# EAGLE library part ET8MG (library et8mg)
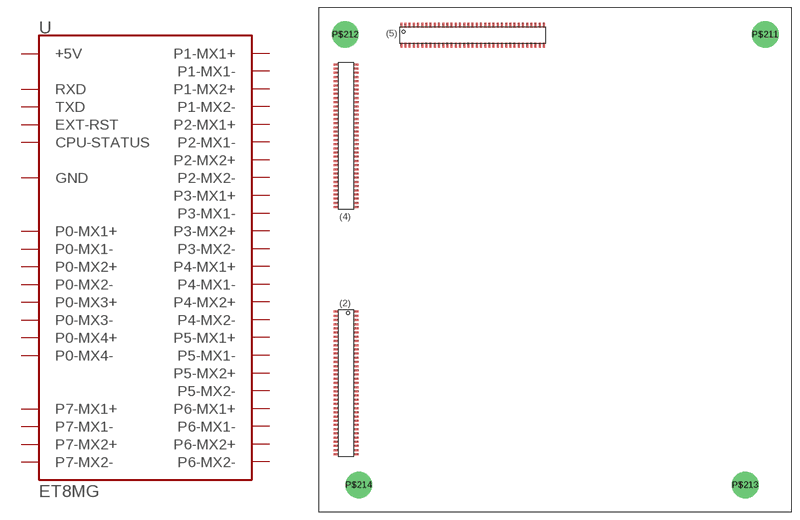
[diagram p0: symbol with the pads of ET8MG; footprint ET8MG]

Designator prefix -

## ET8MG  [ET8MG]
J2-3  P4-MX1+
J2-4  P4-MX2+
J2-5  P4-MX1-
J2-6  P4-MX2-
J2-13  P5-MX1+
J2-14  P5-MX2+
J2-15  P5-MX1-
J2-16  P5-MX2-
J2-23  P6-MX1+
J2-24  P6-MX2+
J2-25  P6-MX1-
J2-26  P6-MX2-
J2-33  P7-MX1+
J2-34  P7-MX2+
J2-35  P7-MX1-
J2-36  P7-MX2-
J2-41  +5V
J2-42  GND
J2-43  RXD
J2-44  TXD
J2-45  +5V
J2-46  GND
J2-50  GND
J2-51  EXT-RST
J2-53  +5V
J2-54  GND
J2-55  +5V
J2-56  GND
J2-57  +5V
J2-58  GND
J2-61  +5V
J2-62  GND
J2-65  +5V
J2-66  GND
J2-69  +5V
J2-70  GND
J4-2  GND
J4-5  +5V
J4-6  GND
J4-7  +5V
J4-9  +5V
J4-10  +5V
J4-11  +5V
J4-12  +5V
J4-29  CPU-STATUS
J4-33  P0-MX1+
J4-34  P0-MX2+
J4-35  P0-MX1-
J4-36  P0-MX2-
J4-37  P0-MX3+
J4-38  P0-MX4+
J4-39  P0-MX3-
J4-40  P0-MX4-
J4-43  P1-MX1+
J4-44  P1-MX2+
J4-45  P1-MX1-
J4-46  P1-MX2-
J4-53  P2-MX1+
J4-54  P2-MX2+
J4-55  P2-MX1-
J4-56  P2-MX2-
J4-63  P3-MX1+
J4-64  P3-MX2+
J4-65  P3-MX1-
J4-66  P3-MX2-

## Footprint ET8MG (pad centres in mm)
smd 1.016 x 0.381: J2-1 -28.321,-9.893; J2-2 -32.131,-9.893; J2-3 -28.321,-10.693; J2-4 -32.131,-10.693; J2-5 -28.321,-11.493; J2-6 -32.131,-11.493; J2-7 -28.321,-12.294; J2-8 -32.131,-12.294; J2-9 -28.321,-13.094; J2-10 -32.131,-13.094; J2-11 -28.321,-13.894; J2-12 -32.131,-13.894; J2-13 -28.321,-14.694; J2-14 -32.131,-14.694; J2-15 -28.321,-15.494; J2-16 -32.131,-15.494; J2-17 -28.321,-16.294; J2-18 -32.131,-16.294; J2-19 -28.321,-17.094; J2-20 -32.131,-17.094; J2-21 -28.321,-17.894; J2-22 -32.131,-17.894; J2-23 -28.321,-18.694; J2-24 -32.131,-18.694; J2-25 -28.321,-19.494; J2-26 -32.131,-19.494; J2-27 -28.321,-20.295; J2-28 -32.131,-20.295; J2-29 -28.321,-21.095; J2-30 -32.131,-21.095; J2-31 -28.321,-21.895; J2-32 -32.131,-21.895; J2-33 -28.321,-22.695; J2-34 -32.131,-22.695; J2-35 -28.321,-23.495; J2-36 -32.131,-23.495; J2-37 -28.321,-24.295; J2-38 -32.131,-24.295; J2-39 -28.321,-25.095; J2-40 -32.131,-25.095; J2-41 -28.321,-25.895; J2-42 -32.131,-25.895; J2-43 -28.321,-26.695; J2-44 -32.131,-26.695; J2-45 -28.321,-27.495; J2-46 -32.131,-27.495; J2-47 -28.321,-28.296; J2-48 -32.131,-28.296; J2-49 -28.321,-29.096; J2-50 -32.131,-29.096; J2-51 -28.321,-29.896; J2-52 -32.131,-29.896; J2-53 -28.321,-30.696; J2-54 -32.131,-30.696; J2-55 -28.321,-31.496; J2-56 -32.131,-31.496; J2-57 -28.321,-32.296; J2-58 -32.131,-32.296; J2-59 -28.321,-33.096; J2-60 -32.131,-33.096; J2-61 -28.321,-33.896; J2-62 -32.131,-33.896; J2-63 -28.321,-34.696; J2-64 -32.131,-34.696; J2-65 -28.321,-35.496; J2-66 -32.131,-35.496; J2-67 -28.321,-36.297; J2-68 -32.131,-36.297; J2-69 -28.321,-37.097; J2-70 -32.131,-37.097; J4-1 -28.321,37.224; J4-2 -32.131,37.224; J4-3 -28.321,36.424; J4-4 -32.131,36.424; J4-5 -28.321,35.623; J4-6 -32.131,35.623; J4-7 -28.321,34.823; J4-8 -32.131,34.823; J4-9 -28.321,34.023; J4-10 -32.131,34.023; J4-11 -28.321,33.223; J4-12 -32.131,33.223; J4-13 -28.321,32.423; J4-14 -32.131,32.423; J4-15 -28.321,31.623; J4-16 -32.131,31.623; J4-17 -28.321,30.823; J4-18 -32.131,30.823; J4-19 -28.321,30.023; J4-20 -32.131,30.023; J4-21 -28.321,29.223; J4-22 -32.131,29.223; J4-23 -28.321,28.423; J4-24 -32.131,28.423; J4-25 -28.321,27.622; J4-26 -32.131,27.622; J4-27 -28.321,26.822; J4-28 -32.131,26.822; J4-29 -28.321,26.022; J4-30 -32.131,26.022; J4-31 -28.321,25.222; J4-32 -32.131,25.222; J4-33 -28.321,24.422; J4-34 -32.131,24.422; J4-35 -28.321,23.622; J4-36 -32.131,23.622; J4-37 -28.321,22.822; J4-38 -32.131,22.822; J4-39 -28.321,22.022; J4-40 -32.131,22.022; J4-41 -28.321,21.222; J4-42 -32.131,21.222; J4-43 -28.321,20.422; J4-44 -32.131,20.422; J4-45 -28.321,19.622; J4-46 -32.131,19.622; J4-47 -28.321,18.821; J4-48 -32.131,18.821; J4-49 -28.321,18.021; J4-50 -32.131,18.021; J4-51 -28.321,17.221; J4-52 -32.131,17.221; J4-53 -28.321,16.421; J4-54 -32.131,16.421; J4-55 -28.321,15.621; J4-56 -32.131,15.621; J4-57 -28.321,14.821; J4-58 -32.131,14.821; J4-59 -28.321,14.021; J4-60 -32.131,14.021; J4-61 -28.321,13.221; J4-62 -32.131,13.221; J4-63 -28.321,12.421; J4-64 -32.131,12.421; J4-65 -28.321,11.62; J4-66 -32.131,11.62; J4-67 -28.321,10.82; J4-68 -32.131,10.82; J4-69 -28.321,10.02; J4-70 -32.131,10.02
smd 0.381 x 1.016: J5-1 -19.698,44.704; J5-2 -19.698,40.894; J5-3 -18.898,44.704; J5-4 -18.898,40.894; J5-5 -18.098,44.704; J5-6 -18.098,40.894; J5-7 -17.297,44.704; J5-8 -17.297,40.894; J5-9 -16.497,44.704; J5-10 -16.497,40.894; J5-11 -15.697,44.704; J5-12 -15.697,40.894; J5-13 -14.897,44.704; J5-14 -14.897,40.894; J5-15 -14.097,44.704; J5-16 -14.097,40.894; J5-17 -13.297,44.704; J5-18 -13.297,40.894; J5-19 -12.497,44.704; J5-20 -12.497,40.894; J5-21 -11.697,44.704; J5-22 -11.697,40.894; J5-23 -10.897,44.704; J5-24 -10.897,40.894; J5-25 -10.097,44.704; J5-26 -10.097,40.894; J5-27 -9.296,44.704; J5-28 -9.296,40.894; J5-29 -8.496,44.704; J5-30 -8.496,40.894; J5-31 -7.696,44.704; J5-32 -7.696,40.894; J5-33 -6.896,44.704; J5-34 -6.896,40.894; J5-35 -6.096,44.704; J5-36 -6.096,40.894; J5-37 -5.296,44.704; J5-38 -5.296,40.894; J5-39 -4.496,44.704; J5-40 -4.496,40.894; J5-41 -3.696,44.704; J5-42 -3.696,40.894; J5-43 -2.896,44.704; J5-44 -2.896,40.894; J5-45 -2.095,44.704; J5-46 -2.095,40.894; J5-47 -1.295,44.704; J5-48 -1.295,40.894; J5-49 -0.495,44.704; J5-50 -0.495,40.894; J5-51 0.305,44.704; J5-52 0.305,40.894; J5-53 1.105,44.704; J5-54 1.105,40.894; J5-55 1.905,44.704; J5-56 1.905,40.894; J5-57 2.705,44.704; J5-58 2.705,40.894; J5-59 3.505,44.704; J5-60 3.505,40.894; J5-61 4.305,44.704; J5-62 4.305,40.894; J5-63 5.105,44.704; J5-64 5.105,40.894; J5-65 5.905,44.704; J5-66 5.905,40.894; J5-67 6.706,44.704; J5-68 6.706,40.894; J5-69 7.506,44.704; J5-70 7.506,40.894
drill 3.2 pad 5.08: P$211 49.657,42.926; P$212 -30.353,42.926; P$213 45.847,-42.926; P$214 -27.813,-42.926